# Altium footprint library MD_DCDC_TRACO_TMA.PcbLib: 1 footprints
Each footprint in its own frame and in the unit in brackets; x right, y up, seen from the top. Pads: shape width x height; smd on the part's side, far side on the other; paste and mask are expansions set on the pad; w line width, h text height; cw(c..) or ccw(c..) is an arc to the next point about the centre after c.
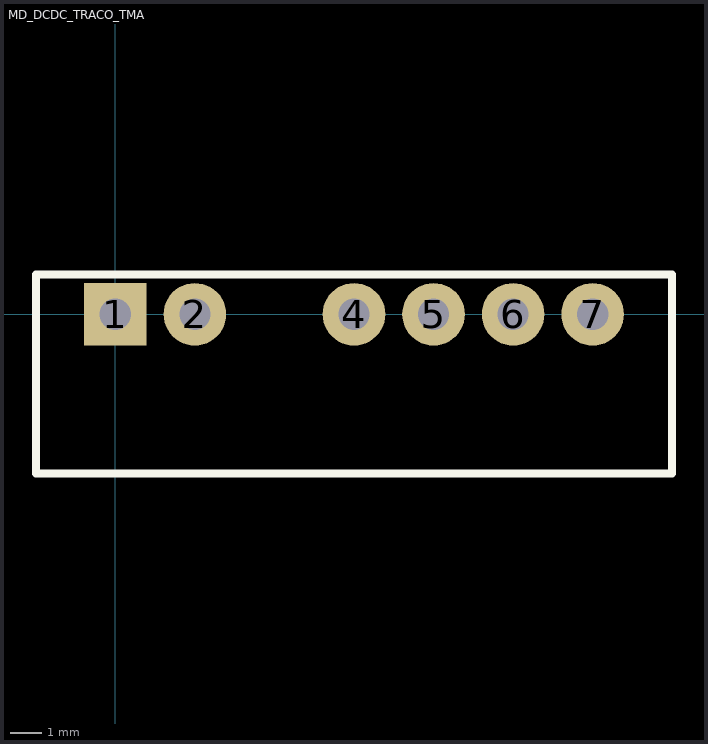
[diagram p0: the footprint, top view; thin cyan lines are the x and y axes]

## MD_DCDC_TRACO_TMA [mm] "TRACOPOWER: TMA 1205S / Murata NMR106C / XP Power IQ1205SA/ Recom  RE-1205S"
pads (6):
  rect 2x2 hole 1: 1(0,0)
  round 2 hole 1: 2(2.54,0) 4(7.62,0) 5(10.16,0) 6(12.7,0) 7(15.24,0)
Top Overlay:
  lines w0.254: -2.54,-5.08 17.78,-5.08 17.78,1.27 -2.54,1.27 -2.54,-5.08
3D body: height 10.2, standoff 0, extent -2.667,-5.207 17.907,1.397